# EAGLE library part DS04 (library xess)
DIL/CODE SWITCH
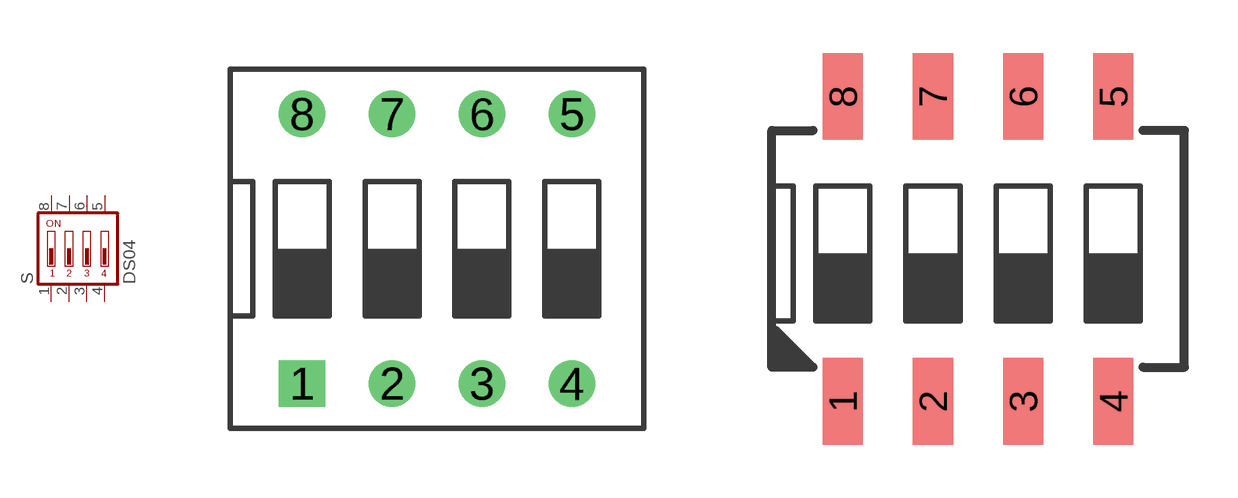
[diagram p37: symbol with the pads of DS-04; footprints DS-04, DS-04-SMT]

Designator prefix S

## DS04THRUHOLE  [DS-04]
1  1  pas
2  2  pas
3  3  pas
4  4  pas
5  5  pas
6  6  pas
7  7  pas
8  8  pas

## DS04SMT  [DS-04-SMT]
Pads as for DS-04

## Footprint DS-04 (pad centres in mm)
DIL/CODE SWITCH Mors distributor Buerklin, 17G554
drill 0.813 square: 1 -3.81,-3.81
drill 0.813 round: 2 -1.27,-3.81; 3 1.27,-3.81; 4 3.81,-3.81; 5 3.81,3.81; 6 1.27,3.81; 7 -1.27,3.81; 8 -3.81,3.81

## Footprint DS-04-SMT (pad centres in mm)
smd 1.13 x 2.44: 1 -3.81,-4.3; 2 -1.27,-4.3; 3 1.27,-4.3; 4 3.81,-4.3; 5 3.81,4.3; 6 1.27,4.3; 7 -1.27,4.3; 8 -3.81,4.3